# Altium footprint library myPcbLib1.PcbLib: 25 footprints (part 2 of 2)
Each footprint in its own frame and in the unit in brackets; x right, y up, seen from the top. Pads: shape width x height; smd on the part's side, far side on the other; paste and mask are expansions set on the pad; w line width, h text height; cw(c..) or ccw(c..) is an arc to the next point about the centre after c.
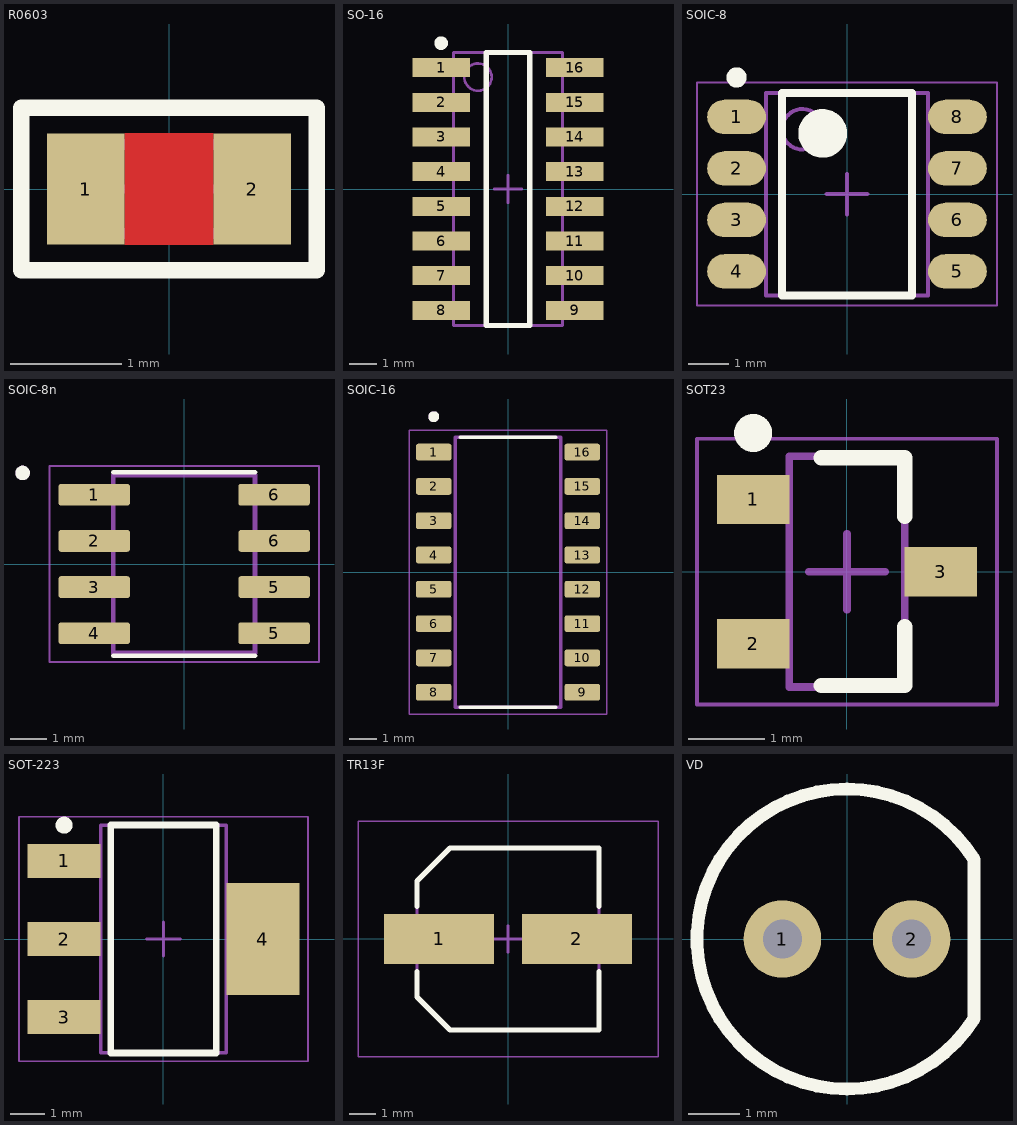
[diagram p1: the footprints below, top view; thin cyan lines are the x and y axes]

## R0603 [mm]
height 0.45
pads (2):
  rect 0.7x1 smd: 1(-0.75,0) 2(0.75,0)
Top Layer:
  pour cut-out: -0.4,0.5 0.4,0.5 0.4,-0.5 -0.4,-0.5
Top Overlay:
  lines w0.15: -1.33,-0.73 1.33,-0.73 1.33,0.73 -1.33,0.73 -1.33,-0.73
Top Mechanical 9/Mechanical 10:
  text ".Designator" at -1.125,0.075 h0.8
  text ".Comment" at -0.9,-0.525 h0.6
Top Mechanical 11/Mechanical 12:
  lines w0.1: -0.85,-0.4 -0.85,0.4 0.75,0.4 0.75,-0.4 -0.85,-0.4
Mechanical 15:
  lines w0.05: -1.35,-0.75 -1.35,0.75 1.35,0.75 1.35,-0.75 -1.35,-0.75
  lines w0.1: -0.375,0 0.375,0 ; 0,-0.375 0,0.375
3D body "RESC1608.STEP": height 0.5, standoff 0, extent -0.85,-0.4 0.75,0.4

## SO-16 [mm] "ch340g"
height 1.75
pads (16):
  rect 2.1x0.7 smd: 1(-2.45,4.445) 2(-2.45,3.175) 3(-2.45,1.905) 4(-2.45,0.635) 5(-2.45,-0.635) 6(-2.45,-1.905) 7(-2.45,-3.175) 8(-2.45,-4.445) 9(2.45,-4.445) 10(2.45,-3.175) 11(2.45,-1.905) 12(2.45,-0.635) 13(2.45,0.635) 14(2.45,1.905) 15(2.45,3.175) 16(2.45,4.445)
Top Overlay:
  circle w0.25: c-2.45,5.345 r0.125
  lines w0.2: -0.8,-5 0.8,-5 0.8,5 -0.8,5 -0.8,-5
Top Mechanical 9/Mechanical 10:
  text ".Designator" at -0.9,5.92 h0.8
  text ".Comment" at -0.6,-6.2 h0.6
Top Mechanical 11/Mechanical 12:
  circle w0.1: c-1.1,4.1 r0.5
  lines w0.1: -0.5,0 0.5,0 ; 0,-0.5 0,0.5 ; -2,-5 2,-5 2,5 -2,5 -2,-5
3D body "so16-1 (SOT109-1).STEP": height 1.78, standoff 0.01, extent -3.018,-4.985 3.118,4.985

## SOIC-8 [mm] "LMV358"
height 1.75
pads (8):
  oval 1.45x0.85 smd: 1(-2.725,1.905) 2(-2.725,0.635) 3(-2.725,-0.635) 4(-2.725,-1.905) 5(2.725,-1.905) 6(2.725,-0.635) 7(2.725,0.635) 8(2.725,1.905)
Top Overlay:
  circle w0.6: c-0.6,1.5 r0.3
  circle w0.25: c-2.725,2.88 r0.125
  lines w0.2: -1.6,-2.5 1.6,-2.5 1.6,2.5 -1.6,2.5 -1.6,-2.5
Top Mechanical 9/Mechanical 10:
  text ".Comment" at -2.198,2.856 h1.52
  text ".Designator" at -2.198,4.016 h1.52
Top Mechanical 13/Mechanical 14:
  circle w0.1: c-1.1,1.6 r0.5
  lines w0.1: -2,-2.5 2,-2.5 2,2.5 -2,2.5 -2,-2.5
Mechanical 15:
  lines w0.05: -3.7,-2.75 3.7,-2.75 3.7,2.75 -3.7,2.75 -3.7,-2.75
  lines w0.1: -0.5,0 0.5,0 ; 0,-0.5 0,0.5
3D body: height 1.75, standoff 0.25, extent -2,-2.5 2,2.5

## SOIC-8n [mm]
pads (8):
  rrect25% 1.97x0.6 smd: 1(-2.475,1.905) 2(-2.475,0.635) 3(-2.475,-0.635) 4(-2.475,-1.905) 5(2.475,-1.905) 5(2.475,-0.635) 6(2.475,0.635) 6(2.475,1.905)
Top Overlay:
  circle w0.2: c-4.445,2.505 r0.1
  lines w0.127: -1.95,-2.525 1.95,-2.525 ; -1.95,2.525 1.95,2.525
Top Mechanical 13/Mechanical 14:
  circle w0.2: c-4.445,2.505 r0.1
  lines w0.127: -1.95,-2.45 1.95,-2.45 1.95,2.45 -1.95,2.45 -1.95,-2.45
Mechanical 15:
  lines w0.05: -3.71,-2.7 3.71,-2.7 3.71,2.7 -3.71,2.7 -3.71,-2.7
3D body "step_temp.STEP": height 3.63, standoff 0, extent -2.97,-2.44 2.97,2.44

## SOIC-16 [mm]
pads (16):
  rrect25% 1.31x0.62 smd: 1(-2.75,4.445) 2(-2.75,3.175) 3(-2.75,1.905) 4(-2.75,0.635) 5(-2.75,-0.635) 6(-2.75,-1.905) 7(-2.75,-3.175) 8(-2.75,-4.445) 9(2.75,-4.445) 10(2.75,-3.175) 11(2.75,-1.905) 12(2.75,-0.635) 13(2.75,0.635) 14(2.75,1.905) 15(2.75,3.175) 16(2.75,4.445)
Top Overlay:
  circle w0.2: c-2.75,5.755 r0.1
  lines w0.127: -1.775,-5 1.775,-5 ; -1.775,5 1.775,5
Top Mechanical 9/Mechanical 10:
  text ".Comment" at -2.523,2.656 h1.52
  text ".Designator" at -2.523,3.816 h1.52
Top Mechanical 13/Mechanical 14:
  circle w0.2: c-2.75,5.755 r0.1
  lines w0.127: -1.95,-5 1.95,-5 1.95,5 -1.95,5 -1.95,-5
Mechanical 15:
  lines w0.05: -3.655,-5.25 3.655,-5.25 3.655,5.25 -3.655,5.25 -3.655,-5.25
3D body "step_temp.STEP": height 1.8, standoff 0, extent -3,-5 3,5

## SOT23 [mm] "mosfet"
height 1.12
pads (3):
  rect 0.95x0.65 smd: 1(-1.235,0.95) 2(-1.235,-0.95) 3(1.235,0)
Top Overlay:
  circle w0.25: c-1.235,1.825 r0.125
  lines w0.2: -0.34,-1.5 0.76,-1.5 0.76,-0.725 ; -0.34,1.5 0.76,1.5 0.76,0.725
Top Mechanical 9/Mechanical 10:
  text ".Designator" at -2.198,3.316 h1.52
  text ".Comment" at -2.198,2.156 h1.52
Top Mechanical 13/Mechanical 14:
  lines w0.1: -0.76,-1.52 -0.76,1.52 0.76,1.52 0.76,-1.52 -0.76,-1.52
Mechanical 15:
  lines w0.05: -1.975,-1.75 -1.975,1.75 1.975,1.75 1.975,-1.75 -1.975,-1.75
  lines w0.1: -0.5,0 0.5,0 ; 0,-0.5 0,0.5
3D body: height 1.12, standoff 0, extent -0.76,-1.52 0.76,1.52

## SOT-223 [mm] "MC33269"
height 1.75
pads (4):
  rect 2.15x1 smd: 1(-2.925,2.3) 2(-2.925,0) 3(-2.925,-2.3)
  rect 2.15x3.3 smd: 4(2.925,0)
Top Overlay:
  circle w0.25: c-2.925,3.35 r0.125
  lines w0.2: -1.55,-3.35 -1.55,3.35 1.55,3.35 1.55,-3.35 -1.55,-3.35
Top Mechanical 9/Mechanical 10:
  text ".Comment" at -0.919,2.473 h1.52
  text ".Designator" at 0.241,2.473 h1.52
Top Mechanical 13/Mechanical 14:
  lines w0.1: -1.85,-3.35 -1.85,3.35 1.85,3.35 1.85,-3.35 -1.85,-3.35
Mechanical 15:
  lines w0.05: -4.25,-3.6 -4.25,3.6 4.25,3.6 4.25,-3.6 -4.25,-3.6
  lines w0.1: -0.5,0 0.5,0 ; 0,-0.5 0,0.5
3D body: height 1.75, standoff 0.02, extent -1.85,-3.35 1.85,3.35

## TR13F [mm] "Aluminum Electrolytic Capacitor, Body 6,60x6,60x6,30mm, IPC Low Density"
height 6.3
pads (2):
  rect 4.1x1.85 smd: 1(-2.575,0) 2(2.575,0)
Top Overlay:
  lines w0.2: -3.4,-1.225 -3.4,-2.163 -2.163,-3.4 3.4,-3.4 3.4,-1.225 ; -3.4,1.225 -3.4,2.163 -2.163,3.4 3.4,3.4 3.4,1.225
Top Mechanical 9/Mechanical 10:
  text ".Comment" at -2.148,1.156 h1.52
  text ".Designator" at -2.148,2.316 h1.52
Top Mechanical 13/Mechanical 14:
  lines w0.1: -3.4,-2.163 -3.4,2.163 -2.163,3.4 3.4,3.4 3.4,-3.4 -2.163,-3.4 -3.4,-2.163
Mechanical 15:
  lines w0.05: -5.6,-4.4 5.6,-4.4 5.6,4.4 -5.6,4.4 -5.6,-4.4
  lines w0.1: -0.5,0 0.5,0 ; 0,-0.5 0,0.5
3D body: height 6.3, standoff 0, extent -3.4,-3.4 3.4,3.4
3D body: height 2.1, standoff 0, extent -3.4,-3.4 3.4,3.4

## VD [mil]
pads (2):
  round 60 hole 30: 1(-50,0) 2(50,0)
Top Overlay:
  lines w10: 98.49,-61.55 cw(c0,0) 98.49,61.55 98.49,-61.55
Bottom Mechanical 7/Mechanical 8:
  text ".Comment" at -100.33,15 h60
  text ".Designator" at -100.33,60.66 h60
3D body "SW3DPS-5MM LED RED-DEFAULT.X_T": height 338.58, standoff -196.85, extent -100.26,-100.39 100.26,100.39